# Altium footprint library EPY.00.250.NTN.PCBLIB: 1 footprints
Each footprint in its own frame and in the unit in brackets; x right, y up, seen from the top. Pads: shape width x height; smd on the part's side, far side on the other; paste and mask are expansions set on the pad; w line width, h text height; cw(c..) or ccw(c..) is an arc to the next point about the centre after c.
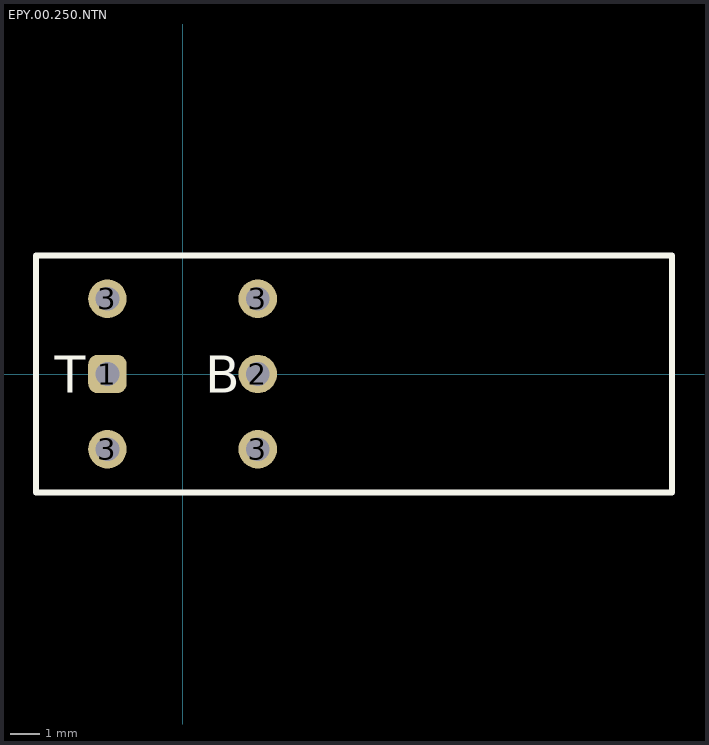
[diagram p0: the footprint, top view; thin cyan lines are the x and y axes]

## EPY.00.250.NTN [mil]
pads (6):
  rrect50% 51.18x51.18 hole 31.5: 1(-100,0)
  round 51.18 hole 31.5: 2(100,0) 3(-100,-100) 3(-100,100) 3(100,-100) 3(100,100)
Top Overlay:
  lines w7.87: -195.28,-157.48 651.18,-157.48 651.18,157.48 -195.28,157.48 -195.28,-157.48
  text "T" at -170,-25 h48.83
  text "B" at 30,-25 h48.83